# EAGLE library part ADF4350 (library mr_radar)
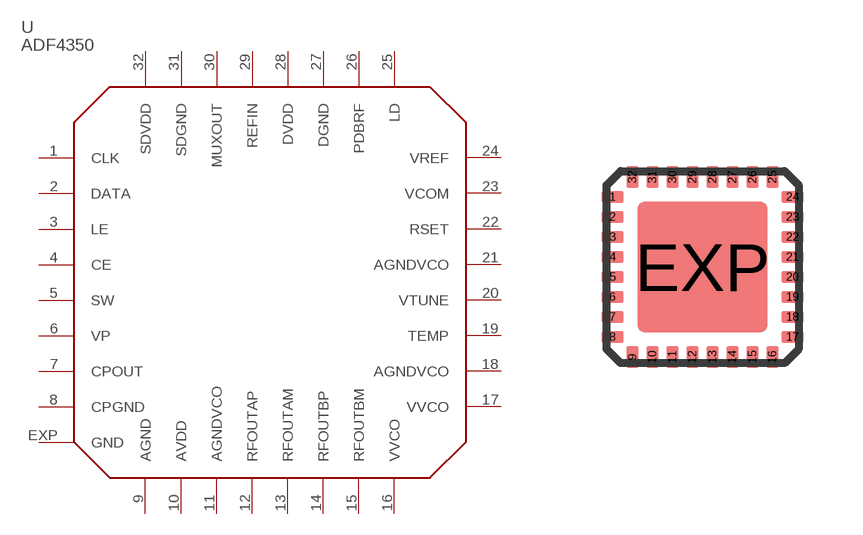
[diagram p11: symbol with the pads of LFCSP32; footprint LFCSP32]

Designator prefix -

## ADF4350  [LFCSP32]
1  CLK  in
2  DATA
3  LE
4  CE
5  SW
6  VP
7  CPOUT  out
8  CPGND
9  AGND
10  AVDD
11  AGNDVCO
12  RFOUTAP  out
13  RFOUTAM  out
14  RFOUTBP  out
15  RFOUTBM  out
16  VVCO
17  VVCO
18  AGNDVCO
19  TEMP
20  VTUNE
21  AGNDVCO
22  RSET
23  VCOM
24  VREF
25  LD
26  PDBRF
27  DGND
28  DVDD
29  REFIN  in
30  MUXOUT  out
31  SDGND
32  SDVDD
EXP  GND

## Footprint LFCSP32 (pad centres in mm)
32-Lead Frame Chip Scale Package [LFCSP_VQ] 5 mm × 5 mm Very Thin Quad (CP-32-3 COMPLIANT TO JEDEC STANDARDS MO-220-VHHD-2 Source: http://www.analog.com/UploadedFiles/Data_Sheets/762180021AD7142_42_1_prd.pdf
smd 0.55 x 0.3: 1 -2.25,1.75; 2 -2.25,1.25; 3 -2.25,0.75; 4 -2.25,0.25; 5 -2.25,-0.25; 6 -2.25,-0.75; 7 -2.25,-1.25; 8 -2.25,-1.75; 17 2.25,-1.75; 18 2.25,-1.25; 19 2.25,-0.75; 20 2.25,-0.25; 21 2.25,0.25; 22 2.25,0.75; 23 2.25,1.25; 24 2.25,1.75
smd 0.3 x 0.55: 9 -1.75,-2.25; 10 -1.25,-2.25; 11 -0.75,-2.25; 12 -0.25,-2.25; 13 0.25,-2.25; 14 0.75,-2.25; 15 1.25,-2.25; 16 1.75,-2.25; 25 1.75,2.25; 26 1.25,2.25; 27 0.75,2.25; 28 0.25,2.25; 29 -0.25,2.25; 30 -0.75,2.25; 31 -1.25,2.25; 32 -1.75,2.25
smd 3.25 x 3.25: EXP 0,0